# Altium schematic symbol library PDC1530B0001.SchLib: 1 symbol
Pins are listed as number, name and electrical type; pins without a type are passive.

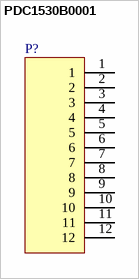
[diagram p0: symbol PDC1530B0001]

## PDC1530B0001
designator P?, comment OK  (value not drawn)
PROLANV Battery Connector, PDC series - Male - 12 Pin - 12P+0D
pins: 1, 2, 3, 4, 5, 6, 7, 8, 9, 10, 11, 12